# Altium footprint library D0603(1608)Z.PcbLib: 1 footprints
Each footprint in its own frame and in the unit in brackets; x right, y up, seen from the top. Pads: shape width x height; smd on the part's side, far side on the other; paste and mask are expansions set on the pad; w line width, h text height; cw(c..) or ccw(c..) is an arc to the next point about the centre after c.
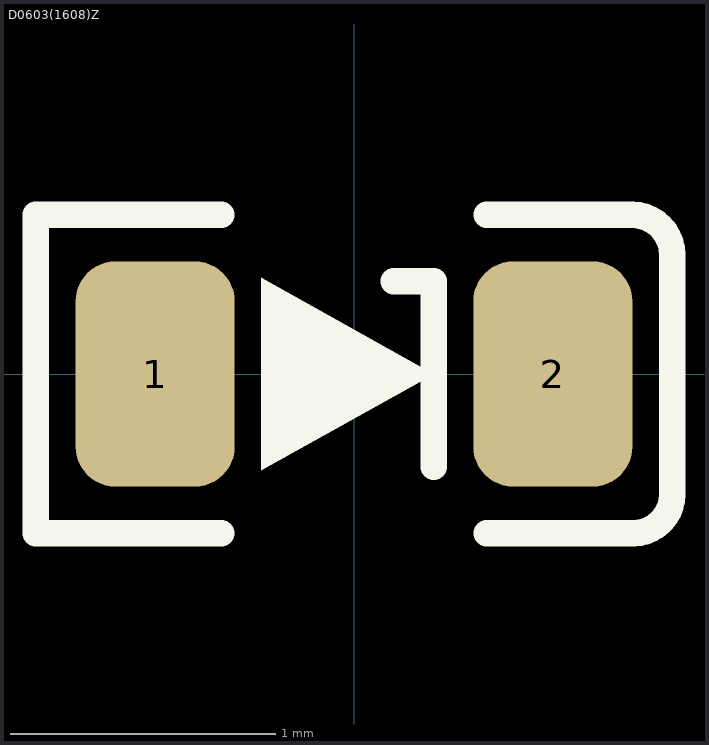
[diagram p0: the footprint, top view; thin cyan lines are the x and y axes]

## D0603(1608)Z [mm]
height 0.55
pads (2):
  rrect50% 0.6x0.85 smd: 1(-0.75,0) 2(0.75,0)
Top Overlay:
  region: -0.35,0.362 0.3,0 -0.35,-0.363
  lines w0.1: -0.5,-0.6 -1.2,-0.6 -1.2,0.6 -0.5,0.6 ; 0.15,0.35 0.3,0.35 0.3,-0.35 ; 0.5,-0.6 1.05,-0.6 ; 0.5,0.6 1.05,0.6 cw(c1.05,0.45) 1.2,0.45 1.2,-0.455 cw(c1.055,-0.455) 1.055,-0.6
3D body "D0603(1608).STEP": height 0.56, standoff 0, extent -0.85,-0.4 0.85,0.4